# EAGLE library part MCP4902 (library MCP3208)
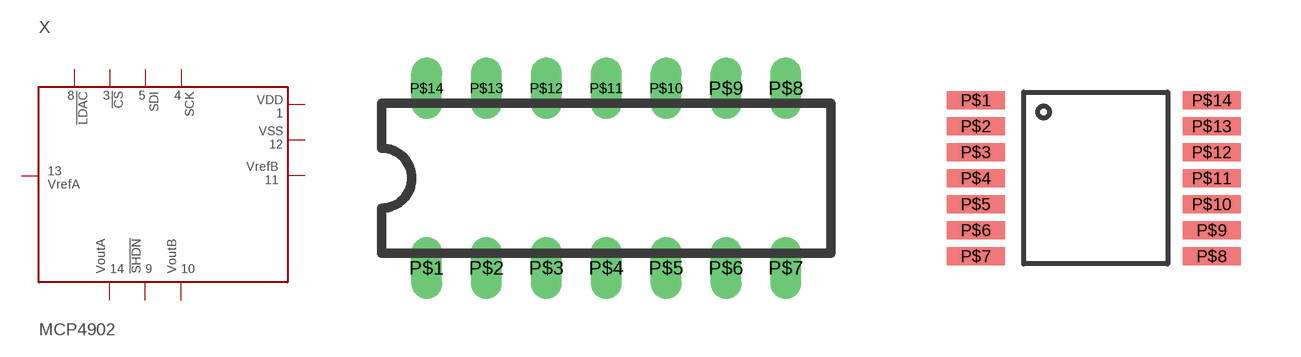
[diagram p1: symbol with the pads of DIP14; footprints DIP14, SMD14]

Designator prefix X

## MCP4902DIP  [DIP14]
P$1  VDD
P$3  !CS
P$4  SCK
P$5  SDI
P$8  !LDAC
P$9  !SHDN
P$10  VOUTB
P$11  VREFB
P$12  VSS
P$13  VREFA
P$14  VOUTA

## MCP4902SMD14  [SMD14]
Pads as for DIP14

## Footprint DIP14 (pad centres in mm)
drill 0.8 long: P$1 -7.62,-3.81; P$2 -5.08,-3.81; P$3 -2.54,-3.81; P$4 0,-3.81; P$5 2.54,-3.81; P$6 5.08,-3.81; P$7 7.62,-3.81; P$8 7.62,3.81; P$9 5.08,3.81; P$10 2.54,3.81; P$11 0,3.81; P$12 -2.54,3.81; P$13 -5.08,3.81; P$14 -7.62,3.81

## Footprint SMD14 (pad centres in mm)
smd 1.45 x 0.45: P$1 0,0; P$2 0,-0.65; P$3 0,-1.3; P$4 0,-1.95; P$5 0,-2.6; P$6 0,-3.25; P$7 0,-3.9; P$8 5.9,-3.9; P$9 5.9,-3.25; P$10 5.9,-2.6; P$11 5.9,-1.95; P$12 5.9,-1.3; P$13 5.9,-0.65; P$14 5.9,0